# Altium footprint library SparkFun-RF.PCBLIB: 68 footprints (part 2 of 5)
Each footprint in its own frame and in the unit in brackets; x right, y up, seen from the top. Pads: shape width x height; smd on the part's side, far side on the other; paste and mask are expansions set on the pad; w line width, h text height; cw(c..) or ccw(c..) is an arc to the next point about the centre after c.
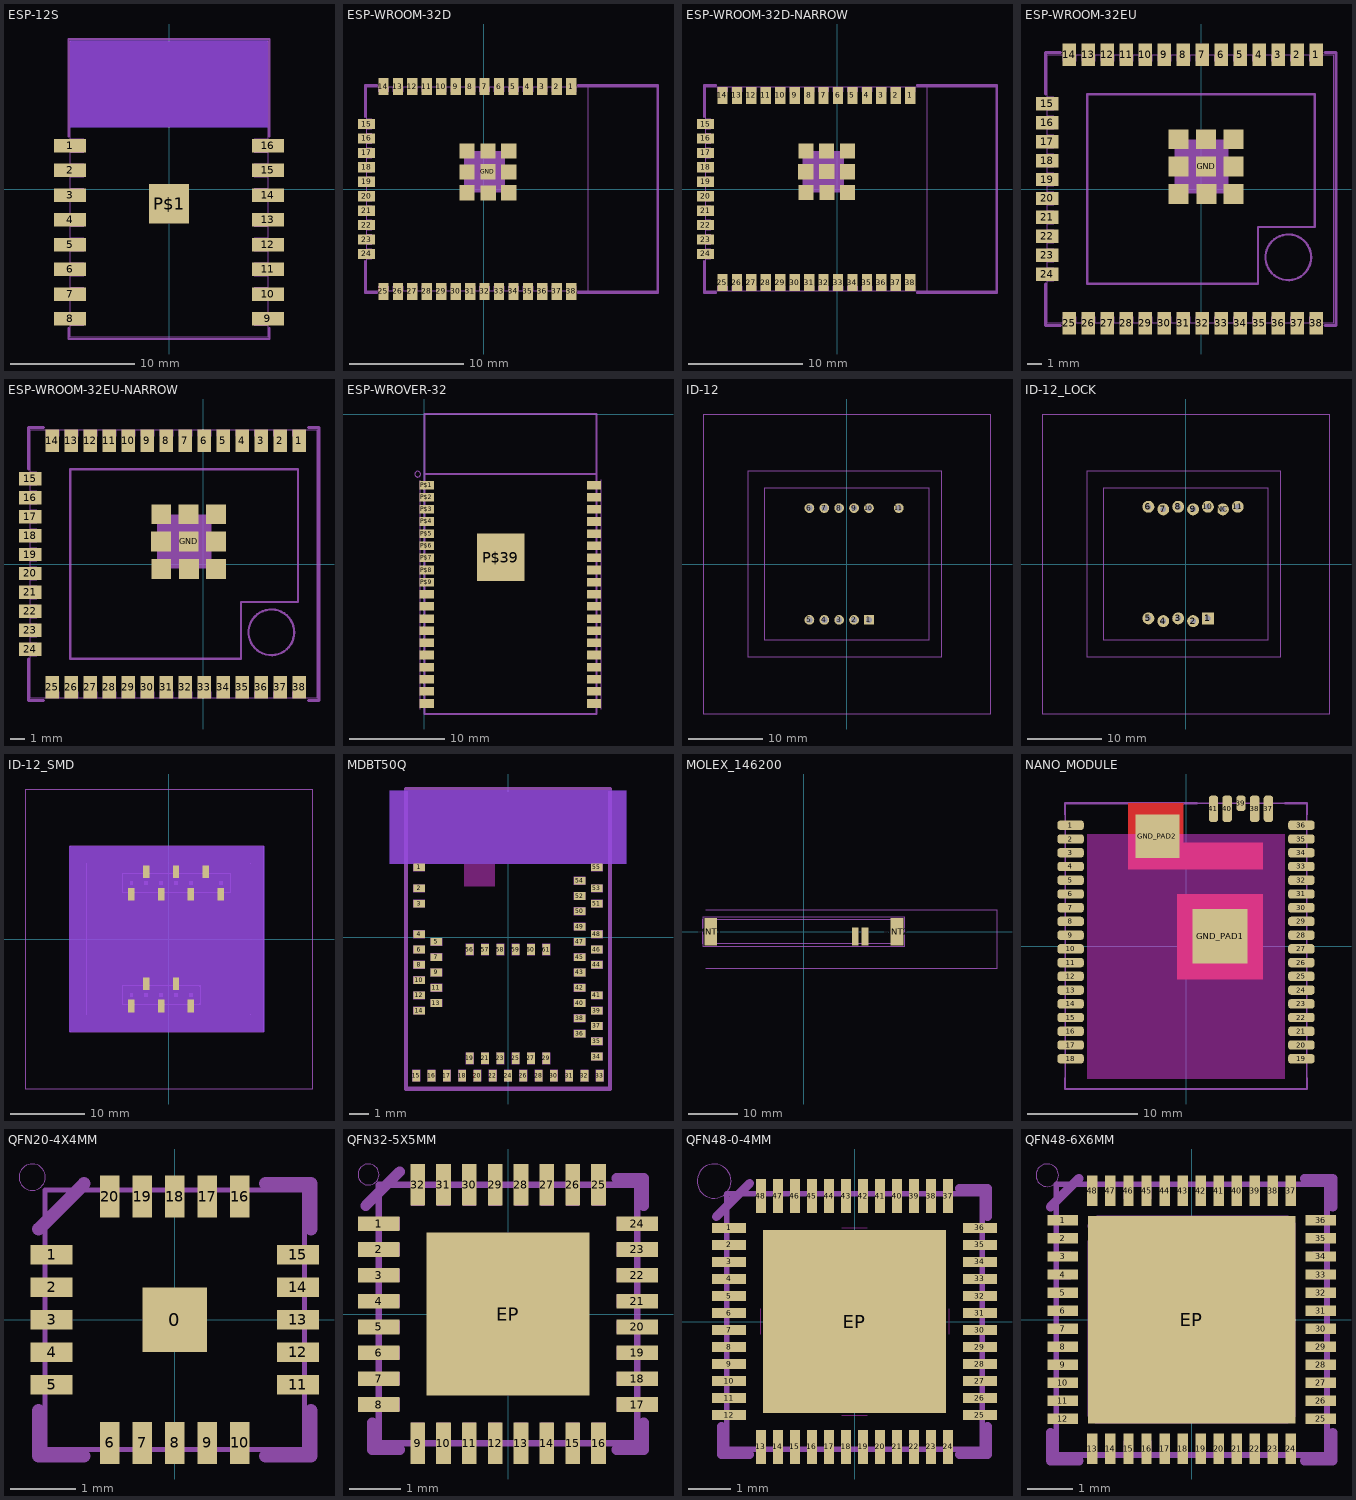
[diagram p1: the footprints below, top view; thin cyan lines are the x and y axes]

## ESP-12S [mm]
pads (17):
  rect 2.6x1.1 smd: 1(-8,3.5) 2(-8,1.5) 3(-8,-0.5) 4(-8,-2.5) 5(-8,-4.5) 6(-8,-6.5) 7(-8,-8.5) 8(-8,-10.5) 9(8,-10.5) 10(8,-8.5) 11(8,-6.5) 12(8,-4.5) 13(8,-2.5) 14(8,-0.5) 15(8,1.5) 16(8,3.5)
  rect 3.2x3.2 smd paste+0: P$1(0,-1.2)
Top keep-out:
  region: -8,5 8,5 8,12 -8,12
Bottom keep-out:
  region: 8,5 -8,5 -8,12 8,12
Top Paste:
  region: -1.016,-2.159 -1.016,-0.159 0.984,-0.159 0.984,-2.159
tDocu:
  region: -8,-11.05 -8,-9.95 -6.9,-9.95 -6.9,-11.05
  region: -8,-9.05 -8,-7.95 -6.9,-7.95 -6.9,-9.05
  region: -8,-7.05 -8,-5.95 -6.9,-5.95 -6.9,-7.05
  region: -8,-5.05 -8,-3.95 -6.9,-3.95 -6.9,-5.05
  region: -8,-3.05 -8,-1.95 -6.9,-1.95 -6.9,-3.05
  region: -8,-1.05 -8,0.05 -6.9,0.05 -6.9,-1.05
  region: -8,0.95 -8,2.05 -6.9,2.05 -6.9,0.95
  region: -8,2.95 -8,4.05 -6.9,4.05 -6.9,2.95
  region: 8,-9.95 8,-11.05 6.9,-11.05 6.9,-9.95
  region: 8,-7.95 8,-9.05 6.9,-9.05 6.9,-7.95
  region: 8,-5.95 8,-7.05 6.9,-7.05 6.9,-5.95
  region: 8,-3.95 8,-5.05 6.9,-5.05 6.9,-3.95
  region: 8,-1.95 8,-3.05 6.9,-3.05 6.9,-1.95
  region: 8,0.05 8,-1.05 6.9,-1.05 6.9,0.05
  region: 8,2.05 8,0.95 6.9,0.95 6.9,2.05
  region: 8,4.05 8,2.95 6.9,2.95 6.9,4.05
  lines w0.003: -8,-12 -8,12 8,12 8,-12 -8,-12
tPlace:
  lines w0.178: -8.127,-11.241 -8.127,-12.127 8.127,-12.127 8.127,-11.241 ; -8.127,4.256 -8.127,12.127 8.127,12.127 8.127,4.256

## ESP-WROOM-32D [mm]
pads (47):
  rect 0.9x1.5 smd: 1(7.7,9) 2(6.43,9) 3(5.16,9) 4(3.89,9) 5(2.62,9) 6(1.35,9) 7(0.08,9) 8(-1.19,9) 9(-2.46,9) 10(-3.73,9) 11(-5,9) 12(-6.27,9) 13(-7.54,9) 14(-8.81,9) 25(-8.81,-9) 26(-7.54,-9) 27(-6.27,-9) 28(-5,-9) 29(-3.73,-9) 30(-2.46,-9) 31(-1.19,-9) 32(0.08,-9) 33(1.35,-9) 34(2.62,-9) 35(3.89,-9) 36(5.16,-9) 37(6.43,-9) 38(7.7,-9)
  rect 1.5x0.9 smd: 15(-10.3,5.715) 16(-10.3,4.445) 17(-10.3,3.175) 18(-10.3,1.905) 19(-10.3,0.635) 20(-10.3,-0.635) 21(-10.3,-1.905) 22(-10.3,-3.175) 23(-10.3,-4.445) 24(-10.3,-5.715)
  rect 1.33x1.33 smd: GND(0.379,1.515) GNDT1(-1.46,3.33) GNDT2(-1.47,1.5) GNDT3(-1.46,-0.33) GNDT4(0.4,-0.34) GNDT5(2.2,-0.33) GNDT6(2.2,1.5) GNDT7(2.2,3.33) GNDT8(0.37,3.33)
tDocu:
  drawing of 46 lines, arcs and shapes, not listed
  text "Keepout Zone" at 12.2,0 h1.97
tPlace:
  lines w0.203: -10.427,-6.35 -10.427,-9.127 -9.4,-9.127 ; -10.427,6.35 -10.427,9.127 -9.4,9.127 ; 8.311,-9.127 15.327,-9.127 15.327,9.127 8.311,9.127

## ESP-WROOM-32D-NARROW [mm]
pads (47):
  rect 0.9x1.5 smd: 1(6.43,8.238) 2(5.16,8.238) 3(3.89,8.238) 4(2.62,8.238) 5(1.35,8.238) 6(0.08,8.238) 7(-1.19,8.238) 8(-2.46,8.238) 9(-3.73,8.238) 10(-5,8.238) 11(-6.27,8.238) 12(-7.54,8.238) 13(-8.81,8.238) 14(-10.08,8.238) 25(-10.08,-8.238) 26(-8.81,-8.238) 27(-7.54,-8.238) 28(-6.27,-8.238) 29(-5,-8.238) 30(-3.73,-8.238) 31(-2.46,-8.238) 32(-1.19,-8.238) 33(0.08,-8.238) 34(1.35,-8.238) 35(2.62,-8.238) 36(3.89,-8.238) 37(5.16,-8.238) 38(6.43,-8.238)
  rect 1.5x0.9 smd: 15(-11.57,5.715) 16(-11.57,4.445) 17(-11.57,3.175) 18(-11.57,1.905) 19(-11.57,0.635) 20(-11.57,-0.635) 21(-11.57,-1.905) 22(-11.57,-3.175) 23(-11.57,-4.445) 24(-11.57,-5.715)
  rect 1.33x1.33 smd: GND1(-0.912,1.531) GNDT1(-2.751,3.346) GNDT2(-2.761,1.516) GNDT3(-2.751,-0.314) GNDT4(-0.891,-0.324) GNDT5(0.909,-0.314) GNDT6(0.909,1.516) GNDT7(0.909,3.346) GNDT8(-0.921,3.346)
tDocu:
  drawing of 46 lines, arcs and shapes, not listed
  text "Keepout Zone" at 10.93,0 h1.97
tPlace:
  lines w0.203: -11.697,-6.35 -11.697,-9.127 -10.67,-9.127 ; -11.697,6.35 -11.697,9.127 -10.67,9.127 ; 7.041,-9.127 14.057,-9.127 14.057,9.127 7.041,9.127

## ESP-WROOM-32EU [mm]
pads (47):
  rect 0.9x1.5 smd: 1(7.7,9) 2(6.43,9) 3(5.16,9) 4(3.89,9) 5(2.62,9) 6(1.35,9) 7(0.08,9) 8(-1.19,9) 9(-2.46,9) 10(-3.73,9) 11(-5,9) 12(-6.27,9) 13(-7.54,9) 14(-8.81,9) 25(-8.81,-9) 26(-7.54,-9) 27(-6.27,-9) 28(-5,-9) 29(-3.73,-9) 30(-2.46,-9) 31(-1.19,-9) 32(0.08,-9) 33(1.35,-9) 34(2.62,-9) 35(3.89,-9) 36(5.16,-9) 37(6.43,-9) 38(7.7,-9)
  rect 1.5x0.9 smd: 15(-10.3,5.715) 16(-10.3,4.445) 17(-10.3,3.175) 18(-10.3,1.905) 19(-10.3,0.635) 20(-10.3,-0.635) 21(-10.3,-1.905) 22(-10.3,-3.175) 23(-10.3,-4.445) 24(-10.3,-5.715)
  rect 1.33x1.33 smd: GND(0.339,1.515) GNDT1(-1.5,3.33) GNDT2(-1.51,1.5) GNDT3(-1.5,-0.33) GNDT4(0.36,-0.34) GNDT5(2.16,-0.33) GNDT6(2.16,1.5) GNDT7(2.16,3.33) GNDT8(0.33,3.33)
tDocu:
  drawing of 50 lines, arcs and shapes, not listed
  text "U.FL" at 4.699,-4.953 h0.69
tPlace:
  lines w0.203: -10.427,-6.35 -10.427,-9.127 -9.4,-9.127 ; -10.427,6.35 -10.427,9.127 -9.4,9.127 ; 8.311,-9.127 9.034,-9.127 9.034,9.127 8.311,9.127

## ESP-WROOM-32EU-NARROW [mm]
pads (47):
  rect 0.9x1.5 smd: 1(6.43,8.238) 2(5.16,8.238) 3(3.89,8.238) 4(2.62,8.238) 5(1.35,8.238) 6(0.08,8.238) 7(-1.19,8.238) 8(-2.46,8.238) 9(-3.73,8.238) 10(-5,8.238) 11(-6.27,8.238) 12(-7.54,8.238) 13(-8.81,8.238) 14(-10.08,8.238) 25(-10.08,-8.238) 26(-8.81,-8.238) 27(-7.54,-8.238) 28(-6.27,-8.238) 29(-5,-8.238) 30(-3.73,-8.238) 31(-2.46,-8.238) 32(-1.19,-8.238) 33(0.08,-8.238) 34(1.35,-8.238) 35(2.62,-8.238) 36(3.89,-8.238) 37(5.16,-8.238) 38(6.43,-8.238)
  rect 1.5x0.9 smd: 15(-11.57,5.715) 16(-11.57,4.445) 17(-11.57,3.175) 18(-11.57,1.905) 19(-11.57,0.635) 20(-11.57,-0.635) 21(-11.57,-1.905) 22(-11.57,-3.175) 23(-11.57,-4.445) 24(-11.57,-5.715)
  rect 1.33x1.33 smd: GND(-0.961,1.515) GNDT1(-2.8,3.33) GNDT2(-2.81,1.5) GNDT3(-2.8,-0.33) GNDT4(-0.94,-0.34) GNDT5(0.86,-0.33) GNDT6(0.86,1.5) GNDT7(0.86,3.33) GNDT8(-0.97,3.33)
tDocu:
  drawing of 50 lines, arcs and shapes, not listed
  text "U.FL" at 3.429,-4.953 h0.69
tPlace:
  lines w0.203: -11.697,-6.35 -11.697,-9.127 -10.67,-9.127 ; -11.697,6.35 -11.697,9.127 -10.67,9.127 ; 7.041,-9.127 7.758,-9.127 7.758,9.127 7.041,9.127

## ESP-WROVER-32 [mm]
pads (39):
  rect 1.5x0.9 smd: P$1(0.25,-7.44) P$2(0.25,-8.71) P$3(0.25,-9.98) P$4(0.25,-11.25) P$5(0.25,-12.52) P$6(0.25,-13.79) P$7(0.25,-15.06) P$8(0.25,-16.33) P$9(0.25,-17.6) P$10(0.25,-18.87) P$11(0.25,-20.14) P$12(0.25,-21.41) P$13(0.25,-22.68) P$14(0.25,-23.95) P$15(0.25,-25.22) P$16(0.25,-26.49) P$17(0.25,-27.76) P$18(0.25,-29.03) P$19(0.25,-30.3) P$20(17.75,-30.3) P$21(17.75,-29.03) P$22(17.75,-27.76) P$23(17.75,-26.49) P$24(17.75,-25.22) P$25(17.75,-23.95) P$26(17.75,-22.68) P$27(17.75,-21.41) P$28(17.75,-20.14) P$29(17.75,-18.87) P$30(17.75,-17.6) P$31(17.75,-16.33) P$32(17.75,-15.06) P$33(17.75,-13.79) P$34(17.75,-12.52) P$35(17.75,-11.25) P$36(17.75,-9.98) P$37(17.75,-8.71) P$38(17.75,-7.44)
  rect 5x5 smd paste+0: P$39(8,-15)
Top Paste:
  region: 6.5,-16.5 6.5,-13.5 9.5,-13.5 9.5,-16.5
tDocu:
  lines w0: -0.5,-30.91 -0.5,-6.94 ; 18.5,-30.88 18.5,-6.86
  lines w0.203: 0,-6.3 0,-31.4 18,-31.4 18,-6.3 ; 0,-6.3 0,0 18,0 18,-6.3 ; 0,-6.3 18,-6.3
tPlace:
  circle w0: c-0.7,-6.3 r0.3
  lines w0.203: 0,-31 0,-31.4 18,-31.4 18,-31

## ID-12 [mil]
pads (11):
  rect 51.5x51.5 / inner round 47.58 / far side rect 51.5x51.5 hole 31.5: 1(118.11,-295.28)
  round 51.5 hole 31.5: 2(39.37,-295.28) 3(-39.37,-295.28) 4(-118.11,-295.28) 5(-196.85,-295.28) 6(-196.85,295.28) 7(-118.11,295.28) 8(-39.37,295.28) 9(39.37,295.28) 10(118.11,295.28) 11(275.59,295.28)
tDocu:
  lines w5: -755.91,-793.31 -755.91,793.31 759.84,793.31 759.84,-793.31 -755.91,-793.31 ; -523.62,-490.16 503.94,-490.16 503.94,490.16 -523.62,490.16 -523.62,-490.16 ; -433.07,-403.54 -433.07,403.54 433.07,403.54 433.07,-403.54 -433.07,-403.54
  text "ID-2" at -3.94,409.45 h20.4
  text "ID-12" at -3.94,496.06 h20.4
  text "ID-20" at -3.94,799.21 h20.4

## ID-12_LOCK [mil]
pads (12):
  rect 63x63 / inner round 58.2 / far side rect 63x63 hole 29: 1(118.07,-287.83)
  round 63 hole 29: 2(39.33,-301.83) 3(-39.41,-287.83) 4(-118.15,-301.83) 5(-196.89,-287.83) 6(-196.89,302.72) 7(-118.15,288.72) 8(-39.41,302.72) 9(39.33,288.72) 10(118.07,302.72) 11(275.55,302.72) NC(197.33,288.72)
tDocu:
  region: 286.11,291.72 266.11,291.72 266.11,299.72 286.11,299.72
  region: 127.11,291.72 107.11,291.72 107.11,299.72 127.11,299.72
  region: 49.11,291.72 29.11,291.72 29.11,299.72 49.11,299.72
  region: -28.89,291.72 -48.89,291.72 -48.89,299.72 -28.89,299.72
  region: -107.89,291.72 -127.89,291.72 -127.89,299.72 -107.89,299.72
  region: -186.89,291.72 -206.89,291.72 -206.89,299.72 -186.89,299.72
  region: 128.11,-299.28 108.11,-299.28 108.11,-291.28 128.11,-291.28
  region: 49.11,-299.28 29.11,-299.28 29.11,-291.28 49.11,-291.28
  region: -30.89,-299.28 -50.89,-299.28 -50.89,-291.28 -30.89,-291.28
  region: -108.89,-299.28 -128.89,-299.28 -128.89,-291.28 -108.89,-291.28
  region: -186.89,-299.28 -206.89,-299.28 -206.89,-291.28 -186.89,-291.28
  lines w5: -755.91,-793.31 -755.91,793.31 759.84,793.31 759.84,-793.31 -755.91,-793.31 ; -523.62,-490.16 503.94,-490.16 503.94,490.16 -523.62,490.16 -523.62,-490.16 ; -433.07,-403.54 -433.07,403.54 433.07,403.54 433.07,-403.54 -433.07,-403.54
  text "NC" at 184.11,281.72 h24.8
  text "ID-2" at -3.94,409.45 h20.4
  text "ID-12" at -3.94,496.06 h20.4
  text "ID-20" at -3.94,799.21 h20.4

## ID-12_SMD [mm]
pads (12):
  rect 0.85x1.7 smd: 1(2.993,-8.998) 2(0.993,-5.998) 3(-1.007,-8.998) 4(-3.007,-5.998) 5(-5.007,-8.998) 6(-5.007,6.013) 7(-3.007,9.013) 8(-1.007,6.013) 9(0.993,9.013) 10(2.993,6.013) 11(6.993,6.013) NC(4.993,9.013)
Top keep-out:
  region: -13.335,-12.446 -13.335,12.446 12.827,12.446 12.827,-12.446
Bottom keep-out:
  region: 12.827,12.446 12.827,-12.446 -13.335,-12.446 -13.335,12.446
tDocu:
  region: -1.254,7.257 -1.254,7.765 -0.746,7.765 -0.746,7.257
  region: -3.254,7.257 -3.254,7.765 -2.746,7.765 -2.746,7.257
  region: -5.254,7.257 -5.254,7.765 -4.746,7.765 -4.746,7.257
  region: 0.746,7.257 0.746,7.765 1.254,7.765 1.254,7.257
  region: 2.746,7.257 2.746,7.765 3.254,7.765 3.254,7.257
  region: 6.746,7.257 6.746,7.765 7.254,7.765 7.254,7.257
  region: -1.254,-7.754 -1.254,-7.246 -0.746,-7.246 -0.746,-7.754
  region: -3.254,-7.754 -3.254,-7.246 -2.746,-7.246 -2.746,-7.754
  region: -5.254,-7.754 -5.254,-7.246 -4.746,-7.246 -4.746,-7.754
  region: 0.746,-7.754 0.746,-7.246 1.254,-7.246 1.254,-7.754
  region: 2.746,-7.754 2.746,-7.246 3.254,-7.246 3.254,-7.754
  lines w0.127: -19.2,-20.15 -19.2,20.15 19.3,20.15 19.3,-20.15 -19.2,-20.15 ; -13.3,-12.45 12.8,-12.45 12.8,12.45 -13.3,12.45 -13.3,-12.45 ; -11,-10.25 -11,10.25 11,10.25 11,-10.25 -11,-10.25
  lines w0.203: -6.257,-8.748 -6.257,-6.248 ; -6.257,6.263 -6.257,8.763 ; -6.244,-8.748 4.274,-8.748 4.274,-6.248 -6.244,-6.248 ; -6.244,6.263 8.338,6.263 8.338,8.763 -6.244,8.763
  text "ID-2" at -0.1,10.4 h0.52
  text "ID-12" at -0.1,12.6 h0.52
  text "ID-20" at -0.1,20.3 h0.52

## MDBT50Q [mm]
pads (61):
  rect 0.6x0.4 smd: 1(-4.65,3.65) 2(-4.65,2.55) 3(-4.65,1.75) 4(-4.65,0.15) 5(-3.75,-0.25) 6(-4.65,-0.65) 7(-3.75,-1.05) 8(-4.65,-1.45) 9(-3.75,-1.85) 10(-4.65,-2.25) 11(-3.75,-2.65) 12(-4.65,-3.05) 13(-3.75,-3.45) 14(-4.65,-3.85) 34(4.65,-6.25) 35(4.65,-5.45) 36(3.75,-5.05) 37(4.65,-4.65) 38(3.75,-4.25) 39(4.65,-3.85) 40(3.75,-3.45) 41(4.65,-3.05) 42(3.75,-2.65) 43(3.75,-1.85) 44(4.65,-1.45) 45(3.75,-1.05) 46(4.65,-0.65) 47(3.75,-0.25) 48(4.65,0.15) 49(3.75,0.55) 50(3.75,1.35) 51(4.65,1.75) 52(3.75,2.15) 53(4.65,2.55) 54(3.75,2.95) 55(4.65,3.65)
  rect 0.4x0.6 smd: 15(-4.8,-7.25) 16(-4,-7.25) 17(-3.2,-7.25) 18(-2.4,-7.25) 19(-2,-6.35) 20(-1.6,-7.25) 21(-1.2,-6.35) 22(-0.8,-7.25) 23(-0.4,-6.35) 24(0,-7.25) 25(0.4,-6.35) 26(0.8,-7.25) 27(1.2,-6.35) 28(1.6,-7.25) 29(2,-6.35) 30(2.4,-7.25) 31(3.2,-7.25) 32(4,-7.25) 33(4.8,-7.25) 56(-2,-0.65) 57(-1.2,-0.65) 58(-0.4,-0.65) 59(0.4,-0.65) 60(1.2,-0.65) 61(2,-0.65)
Top keep-out:
  region: -6.2,3.85 -6.2,7.65 6.2,7.65 6.2,3.85
  region: -2.3,2.65 -2.3,3.85 -0.7,3.85 -0.7,2.65
Bottom keep-out:
  region: -6.2,3.85 -6.2,7.65 6.2,7.65 6.2,3.85
tDocu:
  drawing of 65 lines, arcs and shapes, not listed
tPlace:
  lines w0.203: -5.35,-7.95 -5.35,7.75 5.35,7.75 5.35,-7.95 -5.35,-7.95

## MOLEX_146200 [mm]
pads (4):
  rect 1.4x3.7 smd: FEED(12.5,-0.95) GND(10.5,-0.95)
  rect 2.6x5.6 smd: MNT1(-19,0) MNT2(19,0)
tDocu:
  lines w0.003: -20.6,-2.5 -20.6,2.5 ; -20,-7.5 39.42,-7.5 ; -20,4.5 39.42,4.5 ; 39.42,-7.427 39.42,4.5 ; 39.42,4.506 39.42,4.5 ; -20,-2.5 -20,2.5 20,2.5 20,-2.5 -20,-2.5
  text "GND KEEPOUT" at 0,-7.5 h0.94
  text "BD Edge" at -20.6,0 h0.94
  text "Board Edge" at 0,4.5 h0.94
  text "GND KEEPOUT" at 29.845,-0.896 h0.94
tPlace:
  lines w0.203: -20.533,-3.034 20.533,-3.034 20.533,3.034 -20.533,3.034 -20.533,-3.034

## NANO_MODULE [mm]
pads (43):
  rrect60% 2.4x0.85 smd: 1(-10.5,11) 2(-10.5,9.75) 3(-10.5,8.5) 4(-10.5,7.25) 5(-10.5,6) 6(-10.5,4.75) 7(-10.5,3.5) 8(-10.5,2.25) 9(-10.5,1) 10(-10.5,-0.25) 11(-10.5,-1.5) 12(-10.5,-2.75) 13(-10.5,-4) 14(-10.5,-5.25) 15(-10.5,-6.5) 16(-10.5,-7.75) 17(-10.5,-9) 18(-10.5,-10.25) 19(10.5,-10.25) 20(10.5,-9) 21(10.5,-7.75) 22(10.5,-6.5) 23(10.5,-5.25) 24(10.5,-4) 25(10.5,-2.75) 26(10.5,-1.5) 27(10.5,-0.25) 28(10.5,1) 29(10.5,2.25) 30(10.5,3.5) 31(10.5,4.75) 32(10.5,6) 33(10.5,7.25) 34(10.5,8.5) 35(10.5,9.75) 36(10.5,11)
  rrect60% 0.85x2.4 smd: 37(7.5,12.5) 38(6.25,12.5) 40(3.75,12.5) 41(2.5,12.5)
  rrect60% 0.85x1.4 smd: 39(5,13)
  rect 5x5 smd paste+0 mask+0: GND_PAD1(3.1,0.9)
  rect 4x4 smd paste+0 mask+0: GND_PAD2(-2.6,10)
Top:
  region: -0.8,4.7 7,4.7 7,-3 -0.8,-3
  region: -5.25,13 -0.25,13 -0.25,9.4 7,9.4 7,7 -5.25,7
Top keep-out:
  region: -9,-12.065 -9,10.16 9,10.16 9,-12.065
Top Paste:
  drawing of 49 lines, arcs and shapes, not listed
Top Solder:
  region: -1,-3.2 -1,4.9 7.2,4.9 7.2,-3.2
  region: -5.4,13.2 -0.1,13.2 -0.1,9.6 7.1,9.6 7.1,6.9 -5.4,6.9
tDocu:
  lines w0.127: -5.25,13 -11,13 -11,-13 11,-13 11,13 -0.25,13
  lines w0.203: -5.25,13 -0.25,13
  text "M6E-NANO" at 0,-7.7 h1.97
  text "ThingMagic" at 0,-5.97 h1.97
tPlace:
  lines w0.203: -11,-12 -11,-13 11,-13 11,-12 ; -11,12 -11,13 1,13 ; 9,13 11,13 11,12

## QFN20-4X4MM [mm]
pads (21):
  rect 1x1 smd paste+0: 0(0,0)
  rect 0.65x0.3 smd paste+0: 1(-1.9,1) 2(-1.9,0.5) 3(-1.9,0) 4(-1.9,-0.5) 5(-1.9,-1) 11(1.9,-1) 12(1.9,-0.5) 13(1.9,0) 14(1.9,0.5) 15(1.9,1)
  rect 0.3x0.65 smd paste+0: 6(-1,-1.9) 7(-0.5,-1.9) 8(0,-1.9) 9(0.5,-1.9) 10(1,-1.9) 16(1,1.9) 17(0.5,1.9) 18(0,1.9) 19(-0.5,1.9) 20(-1,1.9)
Top Paste:
  region: -0.25,-0.25 -0.25,0.25 0.25,0.25 0.25,-0.25
  region: -2.095,0.902 -2.095,1.105 -1.613,1.105 -1.613,0.902
  region: -2.095,0.394 -2.095,0.597 -1.613,0.597 -1.613,0.394
  region: -2.095,-0.102 -2.095,0.102 -1.613,0.102 -1.613,-0.102
  region: -2.095,-0.597 -2.095,-0.394 -1.613,-0.394 -1.613,-0.597
  region: -2.095,-1.105 -2.095,-0.902 -1.613,-0.902 -1.613,-1.105
  region: 1.613,0.902 1.613,1.105 2.095,1.105 2.095,0.902
  region: 1.613,0.394 1.613,0.597 2.095,0.597 2.095,0.394
  region: 1.613,-0.102 1.613,0.102 2.095,0.102 2.095,-0.102
  region: 1.613,-0.597 1.613,-0.394 2.095,-0.394 2.095,-0.597
  region: 1.613,-1.105 1.613,-0.902 2.095,-0.902 2.095,-1.105
  region: -0.902,1.613 -1.105,1.613 -1.105,2.095 -0.902,2.095
  region: -0.394,1.613 -0.597,1.613 -0.597,2.095 -0.394,2.095
  region: 0.102,1.613 -0.102,1.613 -0.102,2.095 0.102,2.095
  region: 0.597,1.613 0.394,1.613 0.394,2.095 0.597,2.095
  region: 1.105,1.613 0.902,1.613 0.902,2.095 1.105,2.095
  region: -0.902,-2.095 -1.105,-2.095 -1.105,-1.613 -0.902,-1.613
  region: -0.394,-2.095 -0.597,-2.095 -0.597,-1.613 -0.394,-1.613
  region: 0.102,-2.095 -0.102,-2.095 -0.102,-1.613 0.102,-1.613
  region: 0.597,-2.095 0.394,-2.095 0.394,-1.613 0.597,-1.613
  region: 1.105,-2.095 0.902,-2.095 0.902,-1.613 1.105,-1.613
tDocu:
  lines w0.076: -2,-2 -2,2 2,2 2,-2 -2,-2
tPlace:
  circle w0: c-2.2,2.2 r0.203
  lines w0.203: -2.1,-1.4 -2.1,-2.1 -1.4,-2.1 ; -2.1,1.4 -1.4,2.1 ; 1.4,-2.1 2.1,-2.1 2.1,-1.4 ; 1.4,2.1 2.1,2.1 2.1,1.4

## QFN32-5X5MM [mil]
pads (33):
  rect 31.5x11.2 smd: 1(-98.43,68.9) 2(-98.43,49.21) 3(-98.43,29.53) 4(-98.43,9.84) 5(-98.43,-9.84) 6(-98.43,-29.53) 7(-98.43,-49.21) 8(-98.43,-68.9) 17(98.43,-68.9) 18(98.43,-49.21) 19(98.43,-29.53) 20(98.43,-9.84) 21(98.43,9.84) 22(98.43,29.53) 23(98.43,49.21) 24(98.43,68.9)
  rect 11.2x31.5 smd: 9(-68.9,-98.43) 10(-49.21,-98.43) 11(-29.53,-98.43) 12(-9.84,-98.43) 13(9.84,-98.43) 14(29.53,-98.43) 15(49.21,-98.43) 16(68.9,-98.43) 25(68.9,98.43) 26(49.21,98.43) 27(29.53,98.43) 28(9.84,98.43) 29(-9.84,98.43) 30(-29.53,98.43) 31(-49.21,98.43) 32(-68.9,98.43)
  rect 124.02x124.02 smd paste+0: EP(0,0)
Top Paste:
  region: -57.09,5.91 -57.09,57.09 -5.91,57.09 -5.91,5.91
  region: 5.91,57.09 57.09,57.09 57.09,5.91 5.91,5.91
  region: -5.91,-57.09 -57.09,-57.09 -57.09,-5.91 -5.91,-5.91
  region: 57.09,-5.91 57.09,-57.09 5.91,-57.09 5.91,-5.91
tDocu:
  region: 5.12,98.43 14.57,98.43 14.57,82.68 5.12,82.68
  region: -14.57,98.43 -5.12,98.43 -5.12,82.68 -14.57,82.68
  region: -34.25,98.43 -24.8,98.43 -24.8,82.68 -34.25,82.68
  region: -53.94,98.43 -44.49,98.43 -44.49,82.68 -53.94,82.68
  region: -73.62,98.43 -64.17,98.43 -64.17,82.68 -73.62,82.68
  region: 24.8,98.43 34.25,98.43 34.25,82.68 24.8,82.68
  region: 44.49,98.43 53.94,98.43 53.94,82.68 44.49,82.68
  region: 64.17,98.43 73.62,98.43 73.62,82.68 64.17,82.68
  region: 98.43,-5.12 98.43,-14.57 82.68,-14.57 82.68,-5.12
  region: 98.43,14.57 98.43,5.12 82.68,5.12 82.68,14.57
  region: 98.43,34.25 98.43,24.8 82.68,24.8 82.68,34.25
  region: 98.43,53.94 98.43,44.49 82.68,44.49 82.68,53.94
  region: 98.43,73.62 98.43,64.17 82.68,64.17 82.68,73.62
  region: 98.43,-24.8 98.43,-34.25 82.68,-34.25 82.68,-24.8
  region: 98.43,-44.49 98.43,-53.94 82.68,-53.94 82.68,-44.49
  region: 98.43,-64.17 98.43,-73.62 82.68,-73.62 82.68,-64.17
  region: -98.43,5.12 -98.43,14.57 -82.68,14.57 -82.68,5.12
  region: -98.43,-14.57 -98.43,-5.12 -82.68,-5.12 -82.68,-14.57
  region: -98.43,-34.25 -98.43,-24.8 -82.68,-24.8 -82.68,-34.25
  region: -98.43,-53.94 -98.43,-44.49 -82.68,-44.49 -82.68,-53.94
  region: -98.43,-73.62 -98.43,-64.17 -82.68,-64.17 -82.68,-73.62
  region: -98.43,24.8 -98.43,34.25 -82.68,34.25 -82.68,24.8
  region: -98.43,44.49 -98.43,53.94 -82.68,53.94 -82.68,44.49
  region: -98.43,64.17 -98.43,73.62 -82.68,73.62 -82.68,64.17
  region: -5.12,-98.43 -14.57,-98.43 -14.57,-82.68 -5.12,-82.68
  region: 14.57,-98.43 5.12,-98.43 5.12,-82.68 14.57,-82.68
  region: 34.25,-98.43 24.8,-98.43 24.8,-82.68 34.25,-82.68
  region: 53.94,-98.43 44.49,-98.43 44.49,-82.68 53.94,-82.68
  region: 73.62,-98.43 64.17,-98.43 64.17,-82.68 73.62,-82.68
  region: -24.8,-98.43 -34.25,-98.43 -34.25,-82.68 -24.8,-82.68
  region: -44.49,-98.43 -53.94,-98.43 -53.94,-82.68 -44.49,-82.68
  region: -64.17,-98.43 -73.62,-98.43 -73.62,-82.68 -64.17,-82.68
  lines w5: -98.43,-98.43 -98.43,98.43 98.43,98.43 98.43,-98.43 -98.43,-98.43
tPlace:
  circle w0: c-106.3,106.3 r8
  lines w8: -108.43,82.68 -82.68,108.43 ; -103.43,-82.68 -103.43,-103.43 -82.68,-103.43 ; 82.68,-103.43 103.43,-103.43 103.43,-82.68 ; 82.68,103.43 103.43,103.43 103.43,82.68

## QFN48-0-4MM [mil]
pads (49):
  rect 31.5x9.06 smd: 1(-116.14,86.61) 2(-116.14,70.87) 3(-116.14,55.12) 4(-116.14,39.37) 5(-116.14,23.62) 6(-116.14,7.87) 7(-116.14,-7.87) 8(-116.14,-23.62) 9(-116.14,-39.37) 10(-116.14,-55.12) 11(-116.14,-70.87) 12(-116.14,-86.61) 25(116.14,-86.61) 26(116.14,-70.87) 27(116.14,-55.12) 28(116.14,-39.37) 29(116.14,-23.62) 30(116.14,-7.87) 31(116.14,7.87) 32(116.14,23.62) 33(116.14,39.37) 34(116.14,55.12) 35(116.14,70.87) 36(116.14,86.61)
  rect 9.06x31.5 smd: 13(-86.61,-116.14) 14(-70.87,-116.14) 15(-55.12,-116.14) 16(-39.37,-116.14) 17(-23.62,-116.14) 18(-7.87,-116.14) 19(7.87,-116.14) 20(23.62,-116.14) 21(39.37,-116.14) 22(55.12,-116.14) 23(70.87,-116.14) 24(86.61,-116.14) 37(86.61,116.14) 38(70.87,116.14) 39(55.12,116.14) 40(39.37,116.14) 41(23.62,116.14) 42(7.87,116.14) 43(-7.87,116.14) 44(-23.62,116.14) 45(-39.37,116.14) 46(-55.12,116.14) 47(-70.87,116.14) 48(-86.61,116.14)
  rect 169.29x169.29 smd paste+0: EP(0,0)
Top keep-out:
  lines w1: -87,-12 -87,12 ; -12,-87 12,-87 ; -12,87 12,87 ; 87,-12 87,12
Top Paste:
  region: 12.4,12.4 12.4,72.25 72.25,72.25 72.25,12.4
  region: -12.4,12.4 -72.25,12.4 -72.25,72.25 -12.4,72.25
  region: -12.4,-12.4 -12.4,-72.25 -72.25,-72.25 -72.25,-12.4
  region: 12.4,-12.4 72.25,-12.4 72.25,-72.25 12.4,-72.25
tDocu:
  drawing of 53 lines, arcs and shapes, not listed
tPlace:
  circle w0: c-130,130 r15.81
  lines w8: -128.11,96.89 -96.89,128.11 ; -123.11,-96.89 -123.11,-123.11 -96.89,-123.11 ; 96.89,-123.11 123.11,-123.11 123.11,-96.89 ; 96.89,123.11 123.11,123.11 123.11,96.89

## QFN48-6X6MM [mm]
pads (49):
  rect 0.68x0.23 smd paste+0: 1(-2.86,2.2) 2(-2.86,1.8) 3(-2.86,1.4) 4(-2.86,1) 5(-2.86,0.6) 6(-2.86,0.2) 7(-2.86,-0.2) 8(-2.86,-0.6) 9(-2.86,-1) 10(-2.86,-1.4) 11(-2.86,-1.8) 12(-2.86,-2.2) 25(2.86,-2.2) 26(2.86,-1.8) 27(2.86,-1.4) 28(2.86,-1) 29(2.86,-0.6) 30(2.86,-0.2) 31(2.86,0.2) 32(2.86,0.6) 33(2.86,1) 34(2.86,1.4) 35(2.86,1.8) 36(2.86,2.2)
  rect 0.23x0.68 smd paste+0: 13(-2.2,-2.86) 14(-1.8,-2.86) 15(-1.4,-2.86) 16(-1,-2.86) 17(-0.6,-2.86) 18(-0.2,-2.86) 19(0.2,-2.86) 20(0.6,-2.86) 21(1,-2.86) 22(1.4,-2.86) 23(1.8,-2.86) 24(2.2,-2.86) 37(2.2,2.86) 38(1.8,2.86) 39(1.4,2.86) 40(1,2.86) 41(0.6,2.86) 42(0.2,2.86) 43(-0.2,2.86) 44(-0.6,2.86) 45(-1,2.86) 46(-1.4,2.86) 47(-1.8,2.86) 48(-2.2,2.86)
  rect 4.6x4.6 smd paste+0: EP(0,0)
Top Paste:
  drawing of 52 lines, arcs and shapes, not listed
tDocu:
  drawing of 53 lines, arcs and shapes, not listed
tPlace:
  circle w0: c-3.2,3.2 r0.25
  lines w0.203: -3.127,-2.5 -3.127,-3.127 -2.5,-3.127 ; -3.127,2.5 -2.5,3.127 ; 2.5,-3.127 3.127,-3.127 3.127,-2.5 ; 2.5,3.127 3.127,3.127 3.127,2.5